# Altium footprint library SPDT_switch_SKY13351-378LF_QFN6-LF.PcbLib: 1 footprints
Each footprint in its own frame and in the unit in brackets; x right, y up, seen from the top. Pads: shape width x height; smd on the part's side, far side on the other; paste and mask are expansions set on the pad; w line width, h text height; cw(c..) or ccw(c..) is an arc to the next point about the centre after c.
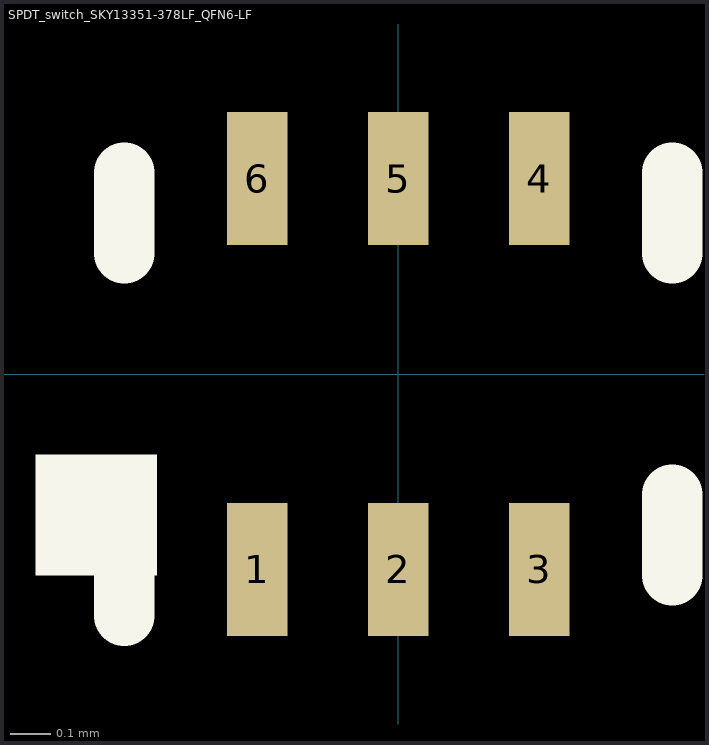
[diagram p0: the footprint, top view; thin cyan lines are the x and y axes]

## SPDT_switch_SKY13351-378LF_QFN6-LF [mm]
pads (6):
  rect 0.15x0.33 smd mask+0: 1(-0.35,-0.485) 2(0,-0.485) 3(0.35,-0.485) 4(0.35,0.485) 5(0,0.485) 6(-0.35,0.485)
Top Overlay:
  region: -0.6,-0.5 -0.9,-0.5 -0.9,-0.2 -0.6,-0.2
  lines w0.15: -0.68,-0.6 -0.68,-0.4 ; -0.68,0.3 -0.68,0.5 ; 0.68,-0.5 0.68,-0.3 ; 0.68,0.3 0.68,0.5
Top Paste:
  region: 0.075,-0.325 -0.075,-0.325 -0.075,-0.05 0.075,-0.05
  region: 0.6,-0.05 -0.6,-0.05 -0.6,0.05 0.6,0.05
Top Solder:
  region: 0.12,-0.2 0.12,-0.28 -0.12,-0.28 -0.12,-0.2 -0.23,-0.09 0.23,-0.09
  region: 0.475,-0.7 0.225,-0.7 0.225,-0.275 0.475,-0.275
  region: 0.125,-0.7 -0.125,-0.7 -0.125,-0.275 0.125,-0.275
  region: -0.225,-0.7 -0.475,-0.7 -0.475,-0.275 -0.225,-0.275
  region: 0.475,0.275 0.225,0.275 0.225,0.7 0.475,0.7
  region: 0.125,0.275 -0.125,0.275 -0.125,0.7 0.125,0.7
  region: -0.225,0.275 -0.475,0.275 -0.475,0.7 -0.225,0.7
  region: 0.25,0.1 -0.25,0.1 -0.25,0.15 0.25,0.15
  region: 0.65,-0.1 -0.65,-0.1 -0.65,0.1 0.65,0.1